# Altium footprint library 电阻.PcbLib: 36 footprints (part 1 of 3)
Each footprint in its own frame and in the unit in brackets; x right, y up, seen from the top. Pads: shape width x height; smd on the part's side, far side on the other; paste and mask are expansions set on the pad; w line width, h text height; cw(c..) or ccw(c..) is an arc to the next point about the centre after c.
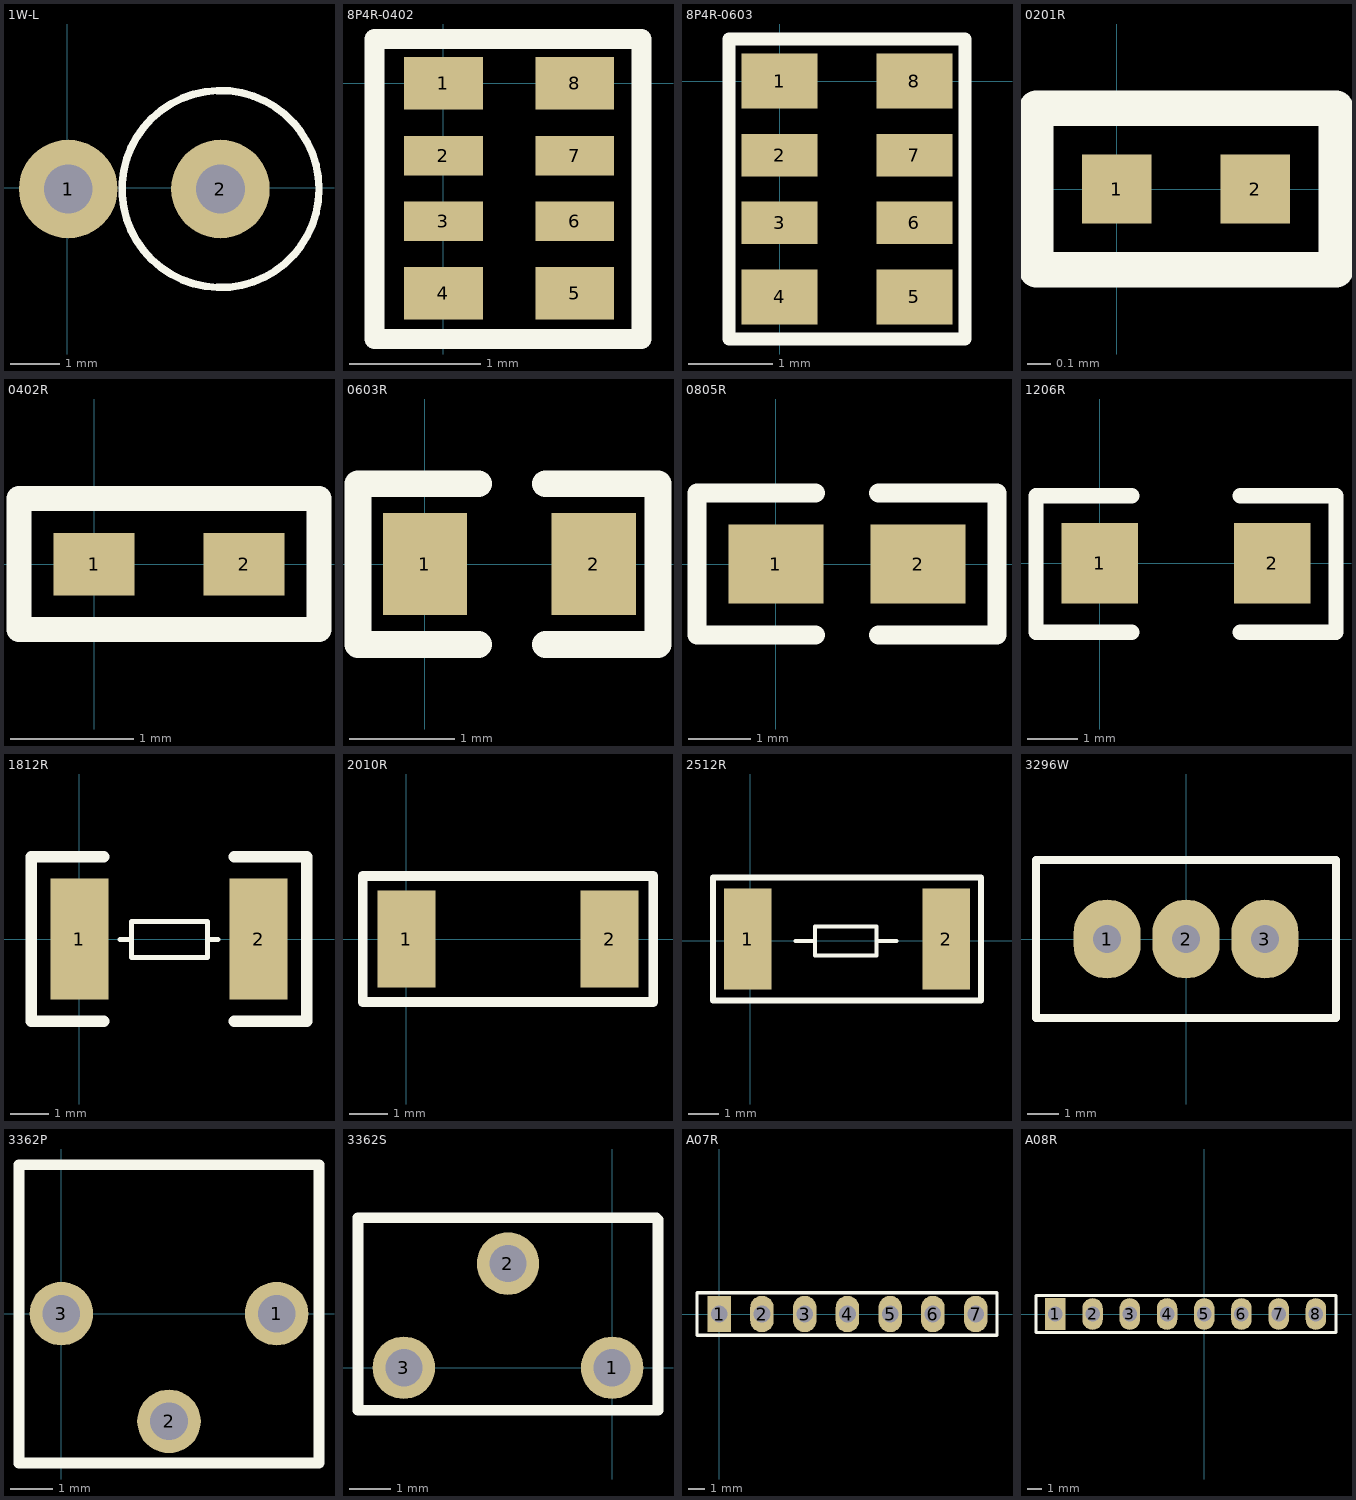
[diagram p0: the footprints below, top view; thin cyan lines are the x and y axes]

## 1W-L [mil]
pads (2):
  round 79 hole 39: 1(0.95,-1) 2(123,-1)
Top Overlay:
  circle w6: c123,-1 r79
3D body "1W Carbon Film Resistor.STEP": height 572.61, standoff -75.5, extent -14.23,-84.35 206.23,81

## 8P4R-0402 [mm]
pads (8):
  rect 0.6x0.4 smd: 1(0,0) 4(0,-1.6) 5(1,-1.6) 8(1,0)
  rect 0.6x0.3 smd: 2(0,-0.55) 3(0,-1.05) 6(1,-1.05) 7(1,-0.55)
Top Overlay:
  lines w0.152: -0.524,-1.947 1.508,-1.947 1.508,0.339 -0.524,0.339 -0.524,-1.947
3D body "8P4R-0402.STEP": height 0.45, standoff 0, extent 0.016,-1.813 1.016,0.187

## 8P4R-0603 [mm]
pads (8):
  rect 0.9x0.65 smd: 1(0,0) 4(0,-2.56) 5(1.6,-2.56) 8(1.6,0)
  rect 0.9x0.5 smd: 2(0,-0.88) 3(0,-1.68) 6(1.6,-1.68) 7(1.6,-0.88)
Top Overlay:
  lines w0.152: -0.597,-3.058 2.197,-3.058 2.197,0.498 -0.597,0.498 -0.597,-3.058
3D body "8P4R-0603.STEP": height 0.6, standoff 0, extent 0.051,-2.87 1.651,0.33

## 0201R [mm]
pads (2):
  rect 0.3x0.3 smd: 1(0,0) 2(0.6,0)
Top Overlay:
  lines w0.152: -0.35,-0.35 0.95,-0.35 0.95,0.35 -0.35,0.35 -0.35,-0.35
3D body "0201R.STEP": height 0.34, standoff 0, extent -0.086,-0.165 0.594,0.165

## 0402R [mil]
pads (2):
  rect 26x20 smd: 1(0,0) 2(48,0)
Top Overlay:
  lines w8: -24,-21 -24,21 72,21 72,-21 -24,-21
3D body "0402R.STEP": height 13.27, standoff -0.51, extent 4.06,-9.84 43.43,9.85

## 0603R [mm]
pads (2):
  rect 0.8x0.965 smd: 1(0,0) 2(1.6,0)
Top Overlay:
  lines w0.254: 0.508,-0.762 -0.635,-0.762 -0.635,0.762 0.508,0.762 ; 1.143,-0.762 2.21,-0.762 2.21,0.762 1.143,0.762
3D body "RES0603.STEP": height 0.45, standoff 0, extent -0.038,-0.41 1.562,0.41

## 0805R [mil]
pads (2):
  rect 60x50 smd: 1(0,0) 2(90,0)
Top Overlay:
  lines w12: 25,-45 -50,-45 -50,45 25,45 ; 65,-45 140,-45 140,45 65,45
3D body "RES0805.STEP": height 15, standoff -1.14, extent 1.26,-24.6 80,24.61

## 1206R [mil]
pads (2):
  rect 60x62.99 smd: 1(0,0) 2(135,0)
Top Overlay:
  lines w12: 25,-54 -50,-54 -50,53 25,53 ; 110,-54 185,-54 185,53 110,53
3D body "R1206.STEP": height 23.62, standoff 0, extent 7.01,-31.49 133,31.5

## 1812R [mil]
pads (2):
  rect 60x125 smd: 1(0,0) 2(185,0)
Top Overlay:
  lines w5.12: 42,-0.61 53.63,-0.61 ; 132.37,-0.61 143,-0.61 ; 53.63,-19.31 53.63,18.09 132.37,18.09 132.37,-19.31 53.63,-19.31
  lines w12: 25,-85 -50,-85 -50,85 25,85 ; 160,-85 235,-85 235,85 160,85
3D body "User Library-Resistors1812.STEP": height 24.11, standoff -0.49, extent -4.57,-63.49 174.56,63.48

## 2010R [mm]
pads (2):
  rect 1.52x2.54 smd: 1(0,0) 2(5.33,0)
Top Overlay:
  lines w0.254: -1.145,-1.651 -1.145,0.635 -1.145,1.651 3.935,1.651 6.475,1.651 6.475,-0.635 6.475,-1.651 3.935,-1.651 -1.145,-1.651
3D body "2010R.STEP": height 0.47, standoff 0, extent 0.167,-1.251 5.167,1.251

## 2512R [mil]
pads (2):
  rect 61x129.92 smd: 1(-3.11,2) 2(251.89,2)
Top Overlay:
  lines w5.12: 58.04,-0.61 83.63,-0.61 ; 162.37,-0.61 187.96,-0.61 ; 83.63,-19.31 162.37,-19.31 162.37,18.09 83.63,18.09 83.63,-19.31
  lines w7.87: -47.39,-76.74 296.17,-76.74 296.17,80.74 -47.39,80.74 -47.39,-76.74
3D body "User Library-res2512_body.step": height 24.44, standoff 0, extent 0,-63 248.79,63

## 3296W [mil]
pads (3):
  oval 85x100 hole 35: 1(-100,0) 2(0,0) 3(100,0)
Top Overlay:
  lines w10: -190,-100 190,-100 190,100 -190,100 -190,-100
3D body "User Library-3296W.step": height 454.72, standoff -62.99, extent -187.6,-94.49 187.6,94.49

## 3362P [mm]
pads (3):
  round 1.5 hole 0.889: 1(5.08,0) 2(2.54,-2.54) 3(0,0)
Top Overlay:
  lines w0.254: -1,-3.531 -1,3.516 ; -1,-3.524 6.08,-3.524 ; -0.991,3.516 6.08,3.516 6.08,-3.505
3D body "3362P.STEP": height 4.7, standoff -5.47, extent -0.76,-3.3 5.84,3.754

## 3362S [mm]
pads (3):
  round 1.5 hole 0.889: 1(0,0) 2(-2.5,2.5) 3(-5,0)
Top Overlay:
  lines w0.254: -6.1,-1.016 1.1,-1.016 ; -6.1,-1.016 -6.1,3.596 1.06,3.596 1.1,3.556 1.1,-1.016 ; -6.1,-1.016 1.1,-1.016
3D body "3362S.STEP": height 7.11, standoff -5.39, extent -5.84,-1.268 0.76,3.432

## A07R [mil]
pads (7):
  rect 55x85 hole 39: 1(0,0)
  oval 55x85 hole 39: 2(100,0) 3(200,0) 4(300,0) 5(400,0) 6(500,0) 7(600,0)
Top Overlay:
  lines w7.87: -52,-50 -52,50 48,50 100,50 650,50 650,-50 -52,-50

## A08R [mil]
pads (8):
  rect 55x85 hole 39: 1(-400,0)
  oval 55x85 hole 39: 2(-300,0) 3(-200,0) 4(-100,0) 5(0,0) 6(100,0) 7(200,0) 8(300,0)
Top Overlay:
  lines w7.87: -452,-50 -452,50 -352,50 -300,50 354,50 354,-50 -452,-50
3D body "User Library-4600H Series (Bourns).step": height 306.75, standoff -173.31, extent -449.02,-50 349.02,48.03